# Altium schematic symbol library DG-306-2.Schlib: 1 symbol
Pins are listed as number, name and electrical type; pins without a type are passive.

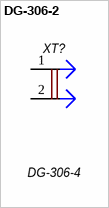
[diagram p0: symbol DG-306-2]

## DG-306-2
designator XT?, comment DG-306-4
Terminal Block 5.08mm; Manufacturer: *; Supplier 1: *; Supplier 2: *; PackageReference: *; MPN: *; Value: DG-306-4; ComponentLink1Description: LCSC - Ningbo Kangnex Elec WJ301V-5.0-2P; ComponentLink1URL: https://lcsc.com/product-detail/Pluggable-System-Terminal-Block_Ningbo-Kangnex-Elec-WJ301V-5-0-2P_C8475.html
footprint DG-306-2
pins: 1, 2